# EAGLE library part EP2C35F672C8 (library altera-cycloneII)
Altera Cyclone II EP2C35F672CX
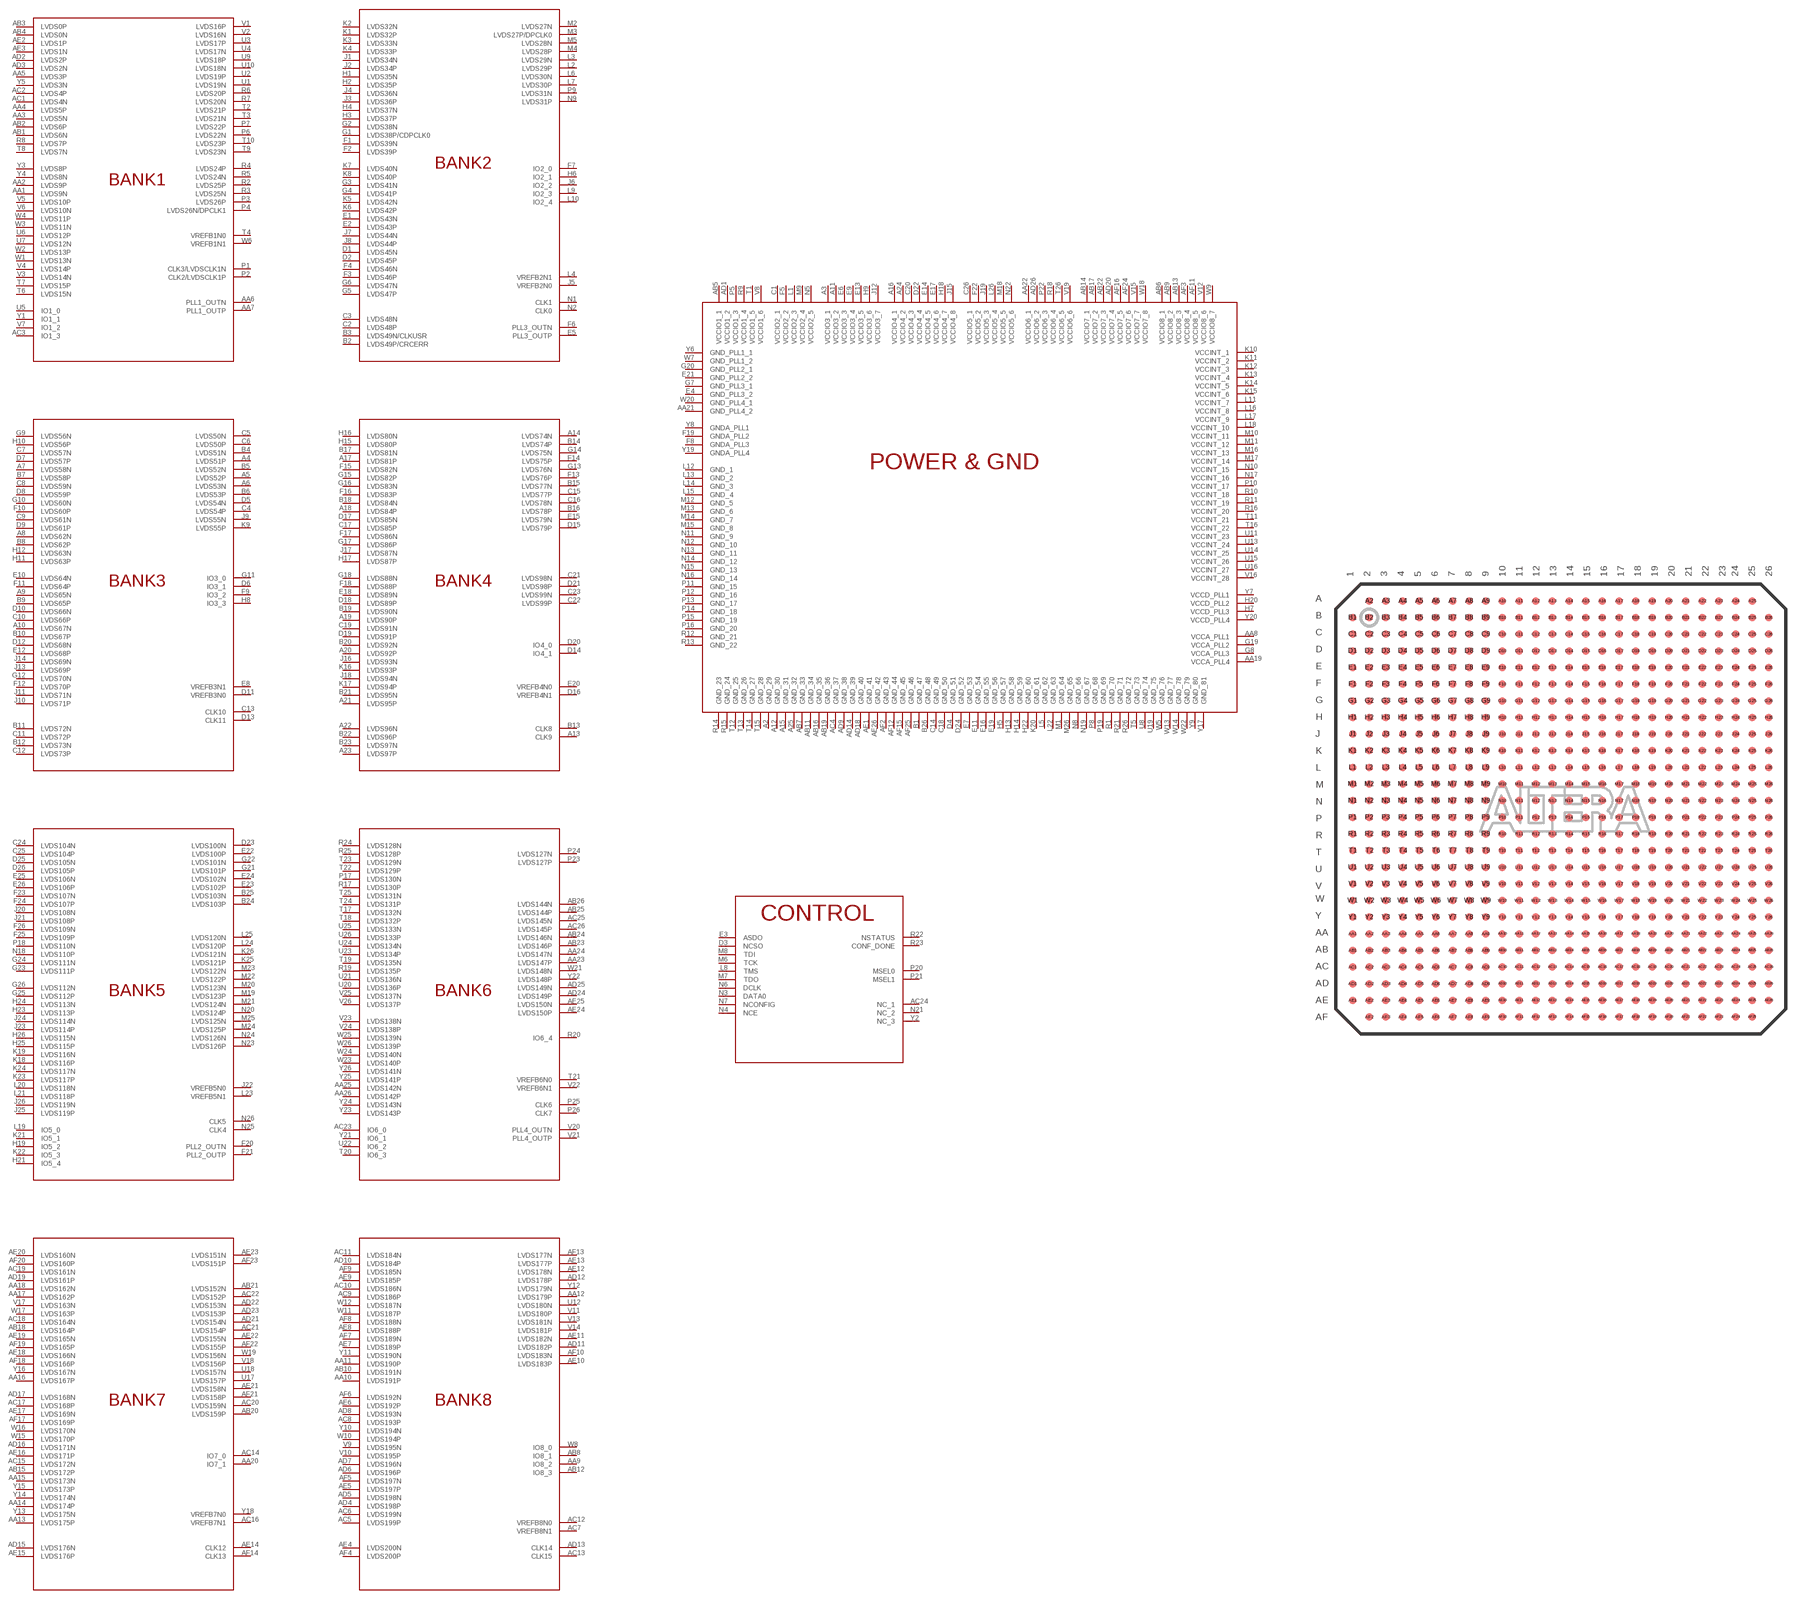
[diagram p0: symbol with the pads of FBGA672; footprint FBGA672]

Designator prefix -; gates BANK1=EP2C35_BANK_1 BANK3=EP2C35_BANK_3 BANK4=EP2C35_BANK_4 BANK5=EP2C35_BANK_5 BANK6=EP2C35_BANK_6 BANK7=EP2C35_BANK_7 BANK8=EP2C35_BANK_8 BANK2=EP2C35_BANK_2 CONTROL=EP2C35_CONTROL_SIGNAL POWER=EP2C35_POWER_GND

## EP2C35F672C8  [FBGA672]
A2  POWER:GND_29
A3  POWER:VCCIO3_1
A4  BANK3:LVDS51P
A5  BANK3:LVDS52P
A6  BANK3:LVDS53N
A7  BANK3:LVDS58N
A8  BANK3:LVDS62N
A9  BANK3:LVDS65N
A10  BANK3:LVDS67N
A11  POWER:VCCIO3_2
A12  POWER:GND_30
A13  BANK4:CLK9
A14  BANK4:LVDS74N
A15  POWER:GND_31
A16  POWER:VCCIO4_1
A17  BANK4:LVDS81P
A18  BANK4:LVDS84P
A19  BANK4:LVDS90P
A20  BANK4:LVDS92P
A21  BANK4:LVDS95P
A22  BANK4:LVDS96N
A23  BANK4:LVDS97P
A24  POWER:VCCIO4_2
A25  POWER:GND_32
AA1  BANK1:LVDS9N
AA2  BANK1:LVDS9P
AA3  BANK1:LVDS5N
AA4  BANK1:LVDS5P
AA5  BANK1:LVDS3P
AA6  BANK1:PLL1_OUTN
AA7  BANK1:PLL1_OUTP
AA8  POWER:VCCA_PLL1
AA9  BANK8:IO8_2
AA10  BANK8:LVDS191P
AA11  BANK8:LVDS190P
AA12  BANK8:LVDS179P
AA13  BANK7:LVDS175P
AA14  BANK7:LVDS174P
AA15  BANK7:LVDS173N
AA16  BANK7:LVDS167P
AA17  BANK7:LVDS162P
AA18  BANK7:LVDS162N
AA19  POWER:VCCA_PLL4
AA20  BANK7:IO7_1
AA21  POWER:GND_PLL4_2
AA22  POWER:VCCIO6_1
AA23  BANK6:LVDS147P
AA24  BANK6:LVDS147N
AA25  BANK6:LVDS142N
AA26  BANK6:LVDS142P
AB1  BANK1:LVDS6N
AB2  BANK1:LVDS6P
AB3  BANK1:LVDS0P
AB4  BANK1:LVDS0N
AB5  POWER:VCCIO1_1
AB6  POWER:VCCIO8_1
AB7  POWER:GND_33
AB8  BANK8:IO8_1
AB9  POWER:VCCIO8_2
AB10  BANK8:LVDS191N
AB11  POWER:GND_34
AB12  BANK8:IO8_3
AB13  POWER:VCCIO8_3
AB14  POWER:VCCIO7_1
AB15  BANK7:LVDS172P
AB16  POWER:GND_35
AB17  POWER:VCCIO7_2
AB18  BANK7:LVDS164P
AB19  POWER:GND_36
AB20  BANK7:LVDS159P
AB21  BANK7:LVDS152N
AB22  POWER:VCCIO7_3
AB23  BANK6:LVDS146P
AB24  BANK6:LVDS146N
AB25  BANK6:LVDS144P
AB26  BANK6:LVDS144N
AC1  BANK1:LVDS4N
AC2  BANK1:LVDS4P
AC3  BANK1:IO1_3
AC4  POWER:GND_37
AC5  BANK8:LVDS199P
AC6  BANK8:LVDS199N
AC7  BANK8:VREFB8N1
AC8  BANK8:LVDS193P
AC9  BANK8:LVDS186P
AC10  BANK8:LVDS186N
AC11  BANK8:LVDS184N
AC12  BANK8:VREFB8N0
AC13  BANK8:CLK15
AC14  BANK7:IO7_0
AC15  BANK7:LVDS172N
AC16  BANK7:VREFB7N1
AC17  BANK7:LVDS168P
AC18  BANK7:LVDS164N
AC19  BANK7:LVDS161N
AC20  BANK7:LVDS159N
AC21  BANK7:LVDS154P
AC22  BANK7:LVDS152P
AC23  BANK6:IO6_0
AC24  CONTROL:NC_1
AC25  BANK6:LVDS145N
AC26  BANK6:LVDS145P
AD1  POWER:VCCIO1_2
AD2  BANK1:LVDS2P
AD3  BANK1:LVDS2N
AD4  BANK8:LVDS198P
AD5  BANK8:LVDS198N
AD6  BANK8:LVDS196P
AD7  BANK8:LVDS196N
AD8  BANK8:LVDS193N
AD9  POWER:GND_38
AD10  BANK8:LVDS184P
AD11  BANK8:LVDS182P
AD12  BANK8:LVDS178P
AD13  BANK8:CLK14
AD14  POWER:GND_39
AD15  BANK7:LVDS176N
AD16  BANK7:LVDS171N
AD17  BANK7:LVDS168N
AD18  POWER:GND_40
AD19  BANK7:LVDS161P
AD20  POWER:VCCIO7_4
AD21  BANK7:LVDS154N
AD22  BANK7:LVDS153N
AD23  BANK7:LVDS153P
AD24  BANK6:LVDS149P
AD25  BANK6:LVDS149N
AD26  POWER:VCCIO6_2
AE1  POWER:GND_41
AE2  BANK1:LVDS1P
AE3  BANK1:LVDS1N
AE4  BANK8:LVDS200N
AE5  BANK8:LVDS197P
AE6  BANK8:LVDS192P
AE7  BANK8:LVDS189P
AE8  BANK8:LVDS188P
AE9  BANK8:LVDS185P
AE10  BANK8:LVDS183P
AE11  BANK8:LVDS182N
AE12  BANK8:LVDS178N
AE13  BANK8:LVDS177P
AE14  BANK7:CLK12
AE15  BANK7:LVDS176P
AE16  BANK7:LVDS171P
AE17  BANK7:LVDS169N
AE18  BANK7:LVDS166N
AE19  BANK7:LVDS165N
AE20  BANK7:LVDS160N
AE21  BANK7:LVDS158N
AE22  BANK7:LVDS155N
AE23  BANK7:LVDS151N
AE24  BANK6:LVDS150P
AE25  BANK6:LVDS150N
AE26  POWER:GND_42
AF2  POWER:GND_43
AF3  POWER:VCCIO8_4
AF4  BANK8:LVDS200P
AF5  BANK8:LVDS197N
AF6  BANK8:LVDS192N
AF7  BANK8:LVDS189N
AF8  BANK8:LVDS188N
AF9  BANK8:LVDS185N
AF10  BANK8:LVDS183N
AF11  POWER:VCCIO8_5
AF12  POWER:GND_44
AF13  BANK8:LVDS177N
AF14  BANK7:CLK13
AF15  POWER:GND_45
AF16  POWER:VCCIO7_5
AF17  BANK7:LVDS169P
AF18  BANK7:LVDS166P
AF19  BANK7:LVDS165P
AF20  BANK7:LVDS160P
AF21  BANK7:LVDS158P
AF22  BANK7:LVDS155P
AF23  BANK7:LVDS151P
AF24  POWER:VCCIO7_6
AF25  POWER:GND_46
B1  POWER:GND_47
B2  BANK2:LVDS49P/CRCERR
B3  BANK2:LVDS49N/CLKUSR
B4  BANK3:LVDS51N
B5  BANK3:LVDS52N
B6  BANK3:LVDS53P
B7  BANK3:LVDS58P
B8  BANK3:LVDS62P
B9  BANK3:LVDS65P
B10  BANK3:LVDS67P
B11  BANK3:LVDS72N
B12  BANK3:LVDS73N
B13  BANK4:CLK8
B14  BANK4:LVDS74P
B15  BANK4:LVDS77N
B16  BANK4:LVDS78P
B17  BANK4:LVDS81N
B18  BANK4:LVDS84N
B19  BANK4:LVDS90N
B20  BANK4:LVDS92N
B21  BANK4:LVDS95N
B22  BANK4:LVDS96P
B23  BANK4:LVDS97N
B24  BANK5:LVDS103P
B25  BANK5:LVDS103N
B26  POWER:GND_48
C1  POWER:VCCIO2_1
C2  BANK2:LVDS48P
C3  BANK2:LVDS48N
C4  BANK3:LVDS54P
C5  BANK3:LVDS50N
C6  BANK3:LVDS50P
C7  BANK3:LVDS57N
C8  BANK3:LVDS59N
C9  BANK3:LVDS61N
C10  BANK3:LVDS66P
C11  BANK3:LVDS72P
C12  BANK3:LVDS73P
C13  BANK3:CLK10
C14  POWER:GND_49
C15  BANK4:LVDS77P
C16  BANK4:LVDS78N
C17  BANK4:LVDS85P
C18  POWER:GND_50
C19  BANK4:LVDS91N
C20  POWER:VCCIO4_3
C21  BANK4:LVDS98N
C22  BANK4:LVDS99P
C23  BANK4:LVDS99N
C24  BANK5:LVDS104N
C25  BANK5:LVDS104P
C26  POWER:VCCIO5_1
D1  BANK2:LVDS45N
D2  BANK2:LVDS45P
D3  CONTROL:NCSO
D4  POWER:GND_51
D5  BANK3:LVDS54N
D6  BANK3:IO3_1
D7  BANK3:LVDS57P
D8  BANK3:LVDS59P
D9  BANK3:LVDS61P
D10  BANK3:LVDS66N
D11  BANK3:VREFB3N0
D12  BANK3:LVDS68N
D13  BANK3:CLK11
D14  BANK4:IO4_1
D15  BANK4:LVDS79P
D16  BANK4:VREFB4N1
D17  BANK4:LVDS85N
D18  BANK4:LVDS89P
D19  BANK4:LVDS91P
D20  BANK4:IO4_0
D21  BANK4:LVDS98P
D22  POWER:VCCIO4_4
D23  BANK5:LVDS100N
D24  POWER:GND_52
D25  BANK5:LVDS105N
D26  BANK5:LVDS105P
E1  BANK2:LVDS43N
E2  BANK2:LVDS43P
E3  CONTROL:ASDO
E4  POWER:GND_PLL3_2
E5  BANK2:PLL3_OUTP
E6  POWER:VCCIO3_3
E7  POWER:GND_53
E8  BANK3:VREFB3N1
E9  POWER:VCCIO3_4
E10  BANK3:LVDS64N
E11  POWER:GND_54
E12  BANK3:LVDS68P
E13  POWER:VCCIO3_5
E14  POWER:VCCIO4_5
E15  BANK4:LVDS79N
E16  POWER:GND_55
E17  POWER:VCCIO4_6
E18  BANK4:LVDS89N
E19  POWER:GND_56
E20  BANK4:VREFB4N0
E21  POWER:GND_PLL2_2
E22  BANK5:LVDS100P
E23  BANK5:LVDS102P
E24  BANK5:LVDS102N
E25  BANK5:LVDS106N
E26  BANK5:LVDS106P
F1  BANK2:LVDS39N
F2  BANK2:LVDS39P
F3  BANK2:LVDS46P
F4  BANK2:LVDS46N
F5  POWER:VCCIO2_2
F6  BANK2:PLL3_OUTN
F7  BANK2:IO2_0
F8  POWER:GNDA_PLL3
F9  BANK3:IO3_2
F10  BANK3:LVDS60P
F11  BANK3:LVDS64P
F12  BANK3:LVDS70P
F13  BANK4:LVDS76P
F14  BANK4:LVDS75P
F15  BANK4:LVDS82N
F16  BANK4:LVDS83P
F17  BANK4:LVDS86N
F18  BANK4:LVDS88P
F19  POWER:GNDA_PLL2
F20  BANK5:PLL2_OUTN
F21  BANK5:PLL2_OUTP
F22  POWER:VCCIO5_2
F23  BANK5:LVDS107N
F24  BANK5:LVDS107P
F25  BANK5:LVDS109P
F26  BANK5:LVDS109N
G1  BANK2:LVDS38P/CDPCLK0
G2  BANK2:LVDS38N
G3  BANK2:LVDS41N
G4  BANK2:LVDS41P
G5  BANK2:LVDS47P
G6  BANK2:LVDS47N
G7  POWER:GND_PLL3_1
G8  POWER:VCCA_PLL3
G9  BANK3:LVDS56N
G10  BANK3:LVDS60N
G11  BANK3:IO3_0
G12  BANK3:LVDS70N
G13  BANK4:LVDS76N
G14  BANK4:LVDS75N
G15  BANK4:LVDS82P
G16  BANK4:LVDS83N
G17  BANK4:LVDS86P
G18  BANK4:LVDS88N
G19  POWER:VCCA_PLL2
G20  POWER:GND_PLL2_1
G21  BANK5:LVDS101P
G22  BANK5:LVDS101N
G23  BANK5:LVDS111P
G24  BANK5:LVDS111N
G25  BANK5:LVDS112P
G26  BANK5:LVDS112N
H1  BANK2:LVDS35N
H2  BANK2:LVDS35P
H3  BANK2:LVDS37P
H4  BANK2:LVDS37N
H5  POWER:GND_57
H6  BANK2:IO2_1
H7  POWER:VCCD_PLL3
H8  BANK3:IO3_3
H9  POWER:VCCIO3_6
H10  BANK3:LVDS56P
H11  BANK3:LVDS63P
H12  BANK3:LVDS63N
H13  POWER:GND_58
H14  POWER:GND_59
H15  BANK4:LVDS80P
H16  BANK4:LVDS80N
H17  BANK4:LVDS87P
H18  POWER:VCCIO4_7
H19  BANK5:IO5_2
H20  POWER:VCCD_PLL2
H21  BANK5:IO5_4
H22  POWER:GND_60
H23  BANK5:LVDS113P
H24  BANK5:LVDS113N
H25  BANK5:LVDS115P
H26  BANK5:LVDS115N
J1  BANK2:LVDS34N
J2  BANK2:LVDS34P
J3  BANK2:LVDS36P
J4  BANK2:LVDS36N
J5  BANK2:VREFB2N0
J6  BANK2:IO2_2
J7  BANK2:LVDS44N
J8  BANK2:LVDS44P
J9  BANK3:LVDS55N
J10  BANK3:LVDS71P
J11  BANK3:LVDS71N
J12  POWER:VCCIO3_7
J13  BANK3:LVDS69P
J14  BANK3:LVDS69N
J15  POWER:VCCIO4_8
J16  BANK4:LVDS93N
J17  BANK4:LVDS87N
J18  BANK4:LVDS94N
J19  POWER:VCCIO5_3
J20  BANK5:LVDS108N
J21  BANK5:LVDS108P
J22  BANK5:VREFB5N0
J23  BANK5:LVDS114P
J24  BANK5:LVDS114N
J25  BANK5:LVDS119P
J26  BANK5:LVDS119N
K1  BANK2:LVDS32P
K2  BANK2:LVDS32N
K3  BANK2:LVDS33N
K4  BANK2:LVDS33P
K5  BANK2:LVDS42N
K6  BANK2:LVDS42P
K7  BANK2:LVDS40N
K8  BANK2:LVDS40P
K9  BANK3:LVDS55P
K10  POWER:VCCINT_1
K11  POWER:VCCINT_2
K12  POWER:VCCINT_3
K13  POWER:VCCINT_4
K14  POWER:VCCINT_5
K15  POWER:VCCINT_6
K16  BANK4:LVDS93P
K17  BANK4:LVDS94P
K18  BANK5:LVDS116P
K19  BANK5:LVDS116N
K20  POWER:GND_61
K21  BANK5:IO5_1
K22  BANK5:IO5_3
K23  BANK5:LVDS117P
K24  BANK5:LVDS117N
K25  BANK5:LVDS121P
K26  BANK5:LVDS121N
L1  POWER:VCCIO2_3
L2  BANK2:LVDS29P
L3  BANK2:LVDS29N
L4  BANK2:VREFB2N1
L5  POWER:GND_62
L6  BANK2:LVDS30N
L7  BANK2:LVDS30P
L8  CONTROL:TMS
L9  BANK2:IO2_3
L10  BANK2:IO2_4
L11  POWER:VCCINT_7
L12  POWER:GND_1
L13  POWER:GND_2
L14  POWER:GND_3
L15  POWER:GND_4
L16  POWER:VCCINT_8
L17  POWER:VCCINT_9
L18  POWER:VCCINT_10
L19  BANK5:IO5_0
L20  BANK5:LVDS118N
L21  BANK5:LVDS118P
L22  POWER:GND_63
L23  BANK5:VREFB5N1
L24  BANK5:LVDS120P
L25  BANK5:LVDS120N
L26  POWER:VCCIO5_4
M1  POWER:GND_64
M2  BANK2:LVDS27N
M3  BANK2:LVDS27P/DPCLK0
M4  BANK2:LVDS28P
M5  BANK2:LVDS28N
M6  CONTROL:TCK
M7  CONTROL:TDO
M8  CONTROL:TDI
M9  POWER:VCCIO2_4
M10  POWER:VCCINT_11
M11  POWER:VCCINT_12
M12  POWER:GND_5
M13  POWER:GND_6
M14  POWER:GND_7
M15  POWER:GND_8
M16  POWER:VCCINT_13
M17  POWER:VCCINT_14
M18  POWER:VCCIO5_5
M19  BANK5:LVDS123P
M20  BANK5:LVDS123N
M21  BANK5:LVDS124N
M22  BANK5:LVDS122P
M23  BANK5:LVDS122N
M24  BANK5:LVDS125P
M25  BANK5:LVDS125N
M26  POWER:GND_65
N1  BANK2:CLK1
N2  BANK2:CLK0
N3  CONTROL:DATA0
N4  CONTROL:NCE
N5  POWER:VCCIO2_5
N6  CONTROL:DCLK
N7  CONTROL:NCONFIG
N8  POWER:GND_66
N9  BANK2:LVDS31P
N10  POWER:VCCINT_15
N11  POWER:GND_9
N12  POWER:GND_10
N13  POWER:GND_11
N14  POWER:GND_12
N15  POWER:GND_13
N16  POWER:GND_14
N17  POWER:VCCINT_16
N18  BANK5:LVDS110P
N19  POWER:GND_67
N20  BANK5:LVDS124P
N21  CONTROL:NC_2
N22  POWER:VCCIO5_6
N23  BANK5:LVDS126P
N24  BANK5:LVDS126N
N25  BANK5:CLK4
N26  BANK5:CLK5
P1  BANK1:CLK3/LVDSCLK1N
P2  BANK1:CLK2/LVDSCLK1P
P3  BANK1:LVDS26P
P4  BANK1:LVDS26N/DPCLK1
P5  POWER:VCCIO1_3
P6  BANK1:LVDS22N
P7  BANK1:LVDS22P
P8  POWER:GND_68
P9  BANK2:LVDS31N
P10  POWER:VCCINT_17
P11  POWER:GND_15
P12  POWER:GND_16
P13  POWER:GND_17
P14  POWER:GND_18
P15  POWER:GND_19
P16  POWER:GND_20
P17  BANK6:LVDS130N
P18  BANK5:LVDS110N
P19  POWER:GND_69
P20  CONTROL:MSEL0
P21  CONTROL:MSEL1
P22  POWER:VCCIO6_3
P23  BANK6:LVDS127P
P24  BANK6:LVDS127N
P25  BANK6:CLK6
P26  BANK6:CLK7
R1  POWER:GND_70
R2  BANK1:LVDS25P
R3  BANK1:LVDS25N
R4  BANK1:LVDS24P
R5  BANK1:LVDS24N
R6  BANK1:LVDS20P
R7  BANK1:LVDS20N
R8  BANK1:LVDS7P
R9  POWER:VCCIO1_4
R10  POWER:VCCINT_18
R11  POWER:VCCINT_19
R12  POWER:GND_21
R13  POWER:GND_22
R14  POWER:GND_23
R15  POWER:GND_24
R16  POWER:VCCINT_20
R17  BANK6:LVDS130P
R18  POWER:VCCIO6_4
R19  BANK6:LVDS135P
R20  BANK6:IO6_4
R21  POWER:GND_71
R22  CONTROL:NSTATUS
R23  CONTROL:CONF_DONE
R24  BANK6:LVDS128N
R25  BANK6:LVDS128P
R26  POWER:GND_72
T1  POWER:VCCIO1_5
T2  BANK1:LVDS21P
T3  BANK1:LVDS21N
T4  BANK1:VREFB1N0
T5  POWER:GND_73
T6  BANK1:LVDS15N
T7  BANK1:LVDS15P
T8  BANK1:LVDS7N
T9  BANK1:LVDS23N
T10  BANK1:LVDS23P
T11  POWER:VCCINT_21
T12  POWER:GND_25
T13  POWER:GND_26
T14  POWER:GND_27
T15  POWER:GND_28
T16  POWER:VCCINT_22
T17  BANK6:LVDS132N
T18  BANK6:LVDS132P
T19  BANK6:LVDS135N
T20  BANK6:IO6_3
T21  BANK6:VREFB6N0
T22  BANK6:LVDS129P
T23  BANK6:LVDS129N
T24  BANK6:LVDS131P
T25  BANK6:LVDS131N
T26  POWER:VCCIO6_5
U1  BANK1:LVDS19N
U2  BANK1:LVDS19P
U3  BANK1:LVDS17P
U4  BANK1:LVDS17N
U5  BANK1:IO1_0
U6  BANK1:LVDS12P
U7  BANK1:LVDS12N
U8  POWER:GND_74
U9  BANK1:LVDS18P
U10  BANK1:LVDS18N
U11  POWER:VCCINT_23
U12  BANK8:LVDS180N
U13  POWER:VCCINT_24
U14  POWER:VCCINT_25
U15  POWER:VCCINT_26
U16  POWER:VCCINT_27
U17  BANK7:LVDS157P
U18  BANK7:LVDS157N
U19  POWER:GND_75
U20  BANK6:LVDS136P
U21  BANK6:LVDS136N
U22  BANK6:IO6_2
U23  BANK6:LVDS134P
U24  BANK6:LVDS134N
U25  BANK6:LVDS133N
U26  BANK6:LVDS133P
V1  BANK1:LVDS16P
V2  BANK1:LVDS16N
V3  BANK1:LVDS14N
V4  BANK1:LVDS14P
V5  BANK1:LVDS10P
V6  BANK1:LVDS10N
V7  BANK1:IO1_2
V8  POWER:VCCIO1_6
V9  BANK8:LVDS195N
V10  BANK8:LVDS195P
V11  BANK8:LVDS180P
V12  POWER:VCCIO8_6
V13  BANK8:LVDS181N
V14  BANK8:LVDS181P
V15  POWER:VCCIO7_7
V16  POWER:VCCINT_28
V17  BANK7:LVDS163N
V18  BANK7:LVDS156P
V19  POWER:VCCIO6_6
V20  BANK6:PLL4_OUTN
V21  BANK6:PLL4_OUTP
V22  BANK6:VREFB6N1
V23  BANK6:LVDS138N
V24  BANK6:LVDS138P
V25  BANK6:LVDS137N
V26  BANK6:LVDS137P
W1  BANK1:LVDS13N
W2  BANK1:LVDS13P
W3  BANK1:LVDS11N
W4  BANK1:LVDS11P
W5  POWER:GND_76
W6  BANK1:VREFB1N1
W7  POWER:GND_PLL1_2
W8  BANK8:IO8_0
W9  POWER:VCCIO8_7
W10  BANK8:LVDS194P
W11  BANK8:LVDS187P
W12  BANK8:LVDS187N
W13  POWER:GND_77
W14  POWER:GND_78
W15  BANK7:LVDS170P
W16  BANK7:LVDS170N
W17  BANK7:LVDS163P
W18  POWER:VCCIO7_8
W19  BANK7:LVDS156N
W20  POWER:GND_PLL4_1
W21  BANK6:LVDS148N
W22  POWER:GND_79
W23  BANK6:LVDS140P
W24  BANK6:LVDS140N
W25  BANK6:LVDS139N
W26  BANK6:LVDS139P
Y1  BANK1:IO1_1
Y2  CONTROL:NC_3
Y3  BANK1:LVDS8P
Y4  BANK1:LVDS8N
Y5  BANK1:LVDS3N
Y6  POWER:GND_PLL1_1
Y7  POWER:VCCD_PLL1
Y8  POWER:GNDA_PLL1
Y9  POWER:GND_80
Y10  BANK8:LVDS194N
Y11  BANK8:LVDS190N
Y12  BANK8:LVDS179N
Y13  BANK7:LVDS175N
Y14  BANK7:LVDS174N
Y15  BANK7:LVDS173P
Y16  BANK7:LVDS167N
Y17  POWER:GND_81
Y18  BANK7:VREFB7N0
Y19  POWER:GNDA_PLL4
Y20  POWER:VCCD_PLL4
Y21  BANK6:IO6_1
Y22  BANK6:LVDS148P
Y23  BANK6:LVDS143P
Y24  BANK6:LVDS143N
Y25  BANK6:LVDS141P
Y26  BANK6:LVDS141N

## Footprint FBGA672 (pad centres in mm)
Fine Ball Grid Array
smd 0.45 x 0.45: A2 -11.5,12.5; A3 -10.5,12.5; A4 -9.5,12.5; A5 -8.5,12.5; A6 -7.5,12.5; A7 -6.5,12.5; A8 -5.5,12.5; A9 -4.5,12.5; A10 -3.5,12.5; A11 -2.5,12.5; A12 -1.5,12.5; A13 -0.5,12.5; A14 0.5,12.5; A15 1.5,12.5; A16 2.5,12.5; A17 3.5,12.5; A18 4.5,12.5; A19 5.5,12.5; A20 6.5,12.5; A21 7.5,12.5; A22 8.5,12.5; A23 9.5,12.5; A24 10.5,12.5; A25 11.5,12.5; AA1 -12.5,-7.5; AA2 -11.5,-7.5; AA3 -10.5,-7.5; AA4 -9.5,-7.5; AA5 -8.5,-7.5; AA6 -7.5,-7.5; AA7 -6.5,-7.5; AA8 -5.5,-7.5; AA9 -4.5,-7.5; AA10 -3.5,-7.5; AA11 -2.5,-7.5; AA12 -1.5,-7.5; AA13 -0.5,-7.5; AA14 0.5,-7.5; AA15 1.5,-7.5; AA16 2.5,-7.5; AA17 3.5,-7.5; AA18 4.5,-7.5; AA19 5.5,-7.5; AA20 6.5,-7.5; AA21 7.5,-7.5; AA22 8.5,-7.5; AA23 9.5,-7.5; AA24 10.5,-7.5; AA25 11.5,-7.5; AA26 12.5,-7.5; AB1 -12.5,-8.5; AB2 -11.5,-8.5; AB3 -10.5,-8.5; AB4 -9.5,-8.5; AB5 -8.5,-8.5; AB6 -7.5,-8.5; AB7 -6.5,-8.5; AB8 -5.5,-8.5; AB9 -4.5,-8.5; AB10 -3.5,-8.5; AB11 -2.5,-8.5; AB12 -1.5,-8.5; AB13 -0.5,-8.5; AB14 0.5,-8.5; AB15 1.5,-8.5; AB16 2.5,-8.5; AB17 3.5,-8.5; AB18 4.5,-8.5; AB19 5.5,-8.5; AB20 6.5,-8.5; AB21 7.5,-8.5; AB22 8.5,-8.5; AB23 9.5,-8.5; AB24 10.5,-8.5; AB25 11.5,-8.5; AB26 12.5,-8.5; AC1 -12.5,-9.5; AC2 -11.5,-9.5; AC3 -10.5,-9.5; AC4 -9.5,-9.5; AC5 -8.5,-9.5; AC6 -7.5,-9.5; AC7 -6.5,-9.5; AC8 -5.5,-9.5; AC9 -4.5,-9.5; AC10 -3.5,-9.5; AC11 -2.5,-9.5; AC12 -1.5,-9.5; AC13 -0.5,-9.5; AC14 0.5,-9.5; AC15 1.5,-9.5; AC16 2.5,-9.5; AC17 3.5,-9.5; AC18 4.5,-9.5; AC19 5.5,-9.5; AC20 6.5,-9.5; AC21 7.5,-9.5; AC22 8.5,-9.5; AC23 9.5,-9.5; AC24 10.5,-9.5; AC25 11.5,-9.5; AC26 12.5,-9.5; AD1 -12.5,-10.5; AD2 -11.5,-10.5; AD3 -10.5,-10.5; AD4 -9.5,-10.5; AD5 -8.5,-10.5; AD6 -7.5,-10.5; AD7 -6.5,-10.5; AD8 -5.5,-10.5; AD9 -4.5,-10.5; AD10 -3.5,-10.5; AD11 -2.5,-10.5; AD12 -1.5,-10.5; AD13 -0.5,-10.5; AD14 0.5,-10.5; AD15 1.5,-10.5; AD16 2.5,-10.5; AD17 3.5,-10.5; AD18 4.5,-10.5; AD19 5.5,-10.5; AD20 6.5,-10.5; AD21 7.5,-10.5; AD22 8.5,-10.5; AD23 9.5,-10.5; AD24 10.5,-10.5; AD25 11.5,-10.5; AD26 12.5,-10.5; AE1 -12.5,-11.5; AE2 -11.5,-11.5; AE3 -10.5,-11.5; AE4 -9.5,-11.5; AE5 -8.5,-11.5; AE6 -7.5,-11.5; AE7 -6.5,-11.5; AE8 -5.5,-11.5; AE9 -4.5,-11.5; AE10 -3.5,-11.5; AE11 -2.5,-11.5; AE12 -1.5,-11.5; AE13 -0.5,-11.5; AE14 0.5,-11.5; AE15 1.5,-11.5; AE16 2.5,-11.5; AE17 3.5,-11.5; AE18 4.5,-11.5; AE19 5.5,-11.5; AE20 6.5,-11.5; AE21 7.5,-11.5; AE22 8.5,-11.5; AE23 9.5,-11.5; AE24 10.5,-11.5; AE25 11.5,-11.5; AE26 12.5,-11.5; AF2 -11.5,-12.5; AF3 -10.5,-12.5; AF4 -9.5,-12.5; AF5 -8.5,-12.5; AF6 -7.5,-12.5; AF7 -6.5,-12.5; AF8 -5.5,-12.5; AF9 -4.5,-12.5; AF10 -3.5,-12.5; AF11 -2.5,-12.5; AF12 -1.5,-12.5; AF13 -0.5,-12.5; AF14 0.5,-12.5; AF15 1.5,-12.5; AF16 2.5,-12.5; AF17 3.5,-12.5; AF18 4.5,-12.5; AF19 5.5,-12.5; AF20 6.5,-12.5; AF21 7.5,-12.5; AF22 8.5,-12.5; AF23 9.5,-12.5; AF24 10.5,-12.5; AF25 11.5,-12.5; B1 -12.5,11.5; B2 -11.5,11.5; B3 -10.5,11.5; B4 -9.5,11.5; B5 -8.5,11.5; B6 -7.5,11.5; B7 -6.5,11.5; B8 -5.5,11.5; B9 -4.5,11.5; B10 -3.5,11.5; B11 -2.5,11.5; B12 -1.5,11.5; B13 -0.5,11.5; B14 0.5,11.5; B15 1.5,11.5; B16 2.5,11.5; B17 3.5,11.5; B18 4.5,11.5; B19 5.5,11.5; B20 6.5,11.5; B21 7.5,11.5; B22 8.5,11.5; B23 9.5,11.5; B24 10.5,11.5; B25 11.5,11.5; B26 12.5,11.5; C1 -12.5,10.5; C2 -11.5,10.5; C3 -10.5,10.5; C4 -9.5,10.5; C5 -8.5,10.5; C6 -7.5,10.5; C7 -6.5,10.5; C8 -5.5,10.5; C9 -4.5,10.5; C10 -3.5,10.5; C11 -2.5,10.5; C12 -1.5,10.5; C13 -0.5,10.5; C14 0.5,10.5; C15 1.5,10.5; C16 2.5,10.5; C17 3.5,10.5; C18 4.5,10.5; C19 5.5,10.5; C20 6.5,10.5; C21 7.5,10.5; C22 8.5,10.5; C23 9.5,10.5; C24 10.5,10.5; C25 11.5,10.5; C26 12.5,10.5; D1 -12.5,9.5; D2 -11.5,9.5; D3 -10.5,9.5; D4 -9.5,9.5; D5 -8.5,9.5; D6 -7.5,9.5; D7 -6.5,9.5; D8 -5.5,9.5; D9 -4.5,9.5; D10 -3.5,9.5; D11 -2.5,9.5; D12 -1.5,9.5; D13 -0.5,9.5; D14 0.5,9.5; D15 1.5,9.5; D16 2.5,9.5; D17 3.5,9.5; D18 4.5,9.5; D19 5.5,9.5; D20 6.5,9.5; D21 7.5,9.5; D22 8.5,9.5; D23 9.5,9.5; D24 10.5,9.5; D25 11.5,9.5; D26 12.5,9.5; E1 -12.5,8.5; E2 -11.5,8.5; E3 -10.5,8.5; E4 -9.5,8.5; E5 -8.5,8.5; E6 -7.5,8.5; E7 -6.5,8.5; E8 -5.5,8.5; E9 -4.5,8.5; E10 -3.5,8.5; E11 -2.5,8.5; E12 -1.5,8.5; E13 -0.5,8.5; E14 0.5,8.5; E15 1.5,8.5; E16 2.5,8.5; E17 3.5,8.5; E18 4.5,8.5; E19 5.5,8.5; E20 6.5,8.5; E21 7.5,8.5; E22 8.5,8.5; E23 9.5,8.5; E24 10.5,8.5; E25 11.5,8.5; E26 12.5,8.5; F1 -12.5,7.5; F2 -11.5,7.5; F3 -10.5,7.5; F4 -9.5,7.5; F5 -8.5,7.5; F6 -7.5,7.5; F7 -6.5,7.5; F8 -5.5,7.5; F9 -4.5,7.5; F10 -3.5,7.5; F11 -2.5,7.5; F12 -1.5,7.5; F13 -0.5,7.5; F14 0.5,7.5; F15 1.5,7.5; F16 2.5,7.5; F17 3.5,7.5; F18 4.5,7.5; F19 5.5,7.5; F20 6.5,7.5; F21 7.5,7.5; F22 8.5,7.5; F23 9.5,7.5; F24 10.5,7.5; F25 11.5,7.5; F26 12.5,7.5; G1 -12.5,6.5; G2 -11.5,6.5; G3 -10.5,6.5; G4 -9.5,6.5; G5 -8.5,6.5; G6 -7.5,6.5; G7 -6.5,6.5; G8 -5.5,6.5; G9 -4.5,6.5; G10 -3.5,6.5; G11 -2.5,6.5; G12 -1.5,6.5; G13 -0.5,6.5; G14 0.5,6.5; G15 1.5,6.5; G16 2.5,6.5; G17 3.5,6.5; G18 4.5,6.5; G19 5.5,6.5; G20 6.5,6.5; G21 7.5,6.5; G22 8.5,6.5; G23 9.5,6.5; G24 10.5,6.5; G25 11.5,6.5; G26 12.5,6.5; H1 -12.5,5.5; H2 -11.5,5.5; H3 -10.5,5.5; H4 -9.5,5.5; H5 -8.5,5.5; H6 -7.5,5.5; H7 -6.5,5.5; H8 -5.5,5.5; H9 -4.5,5.5; H10 -3.5,5.5; H11 -2.5,5.5; H12 -1.5,5.5; H13 -0.5,5.5; H14 0.5,5.5; H15 1.5,5.5; H16 2.5,5.5; H17 3.5,5.5; H18 4.5,5.5; H19 5.5,5.5; H20 6.5,5.5; H21 7.5,5.5; H22 8.5,5.5; H23 9.5,5.5; H24 10.5,5.5; H25 11.5,5.5; H26 12.5,5.5; J1 -12.5,4.5; J2 -11.5,4.5; J3 -10.5,4.5; J4 -9.5,4.5; J5 -8.5,4.5; J6 -7.5,4.5; J7 -6.5,4.5; J8 -5.5,4.5; J9 -4.5,4.5; J10 -3.5,4.5; J11 -2.5,4.5; J12 -1.5,4.5; J13 -0.5,4.5; J14 0.5,4.5; J15 1.5,4.5; J16 2.5,4.5; J17 3.5,4.5; J18 4.5,4.5; J19 5.5,4.5; J20 6.5,4.5; J21 7.5,4.5; J22 8.5,4.5; J23 9.5,4.5; J24 10.5,4.5; J25 11.5,4.5; J26 12.5,4.5; K1 -12.5,3.5; K2 -11.5,3.5; K3 -10.5,3.5; K4 -9.5,3.5; K5 -8.5,3.5; K6 -7.5,3.5; K7 -6.5,3.5; K8 -5.5,3.5; K9 -4.5,3.5; K10 -3.5,3.5; K11 -2.5,3.5; K12 -1.5,3.5; K13 -0.5,3.5; K14 0.5,3.5; K15 1.5,3.5; K16 2.5,3.5; K17 3.5,3.5; K18 4.5,3.5; K19 5.5,3.5; K20 6.5,3.5; K21 7.5,3.5; K22 8.5,3.5; K23 9.5,3.5; K24 10.5,3.5; K25 11.5,3.5; K26 12.5,3.5; L1 -12.5,2.5; L2 -11.5,2.5; L3 -10.5,2.5; L4 -9.5,2.5; L5 -8.5,2.5; L6 -7.5,2.5; L7 -6.5,2.5; L8 -5.5,2.5; L9 -4.5,2.5; L10 -3.5,2.5; L11 -2.5,2.5; L12 -1.5,2.5; L13 -0.5,2.5; L14 0.5,2.5; L15 1.5,2.5; L16 2.5,2.5; L17 3.5,2.5; L18 4.5,2.5; L19 5.5,2.5; L20 6.5,2.5; L21 7.5,2.5; L22 8.5,2.5; L23 9.5,2.5; L24 10.5,2.5; L25 11.5,2.5; L26 12.5,2.5; M1 -12.5,1.5; M2 -11.5,1.5; M3 -10.5,1.5; M4 -9.5,1.5; M5 -8.5,1.5; M6 -7.5,1.5; M7 -6.5,1.5; M8 -5.5,1.5; M9 -4.5,1.5; M10 -3.5,1.5; M11 -2.5,1.5; M12 -1.5,1.5; M13 -0.5,1.5; M14 0.5,1.5; M15 1.5,1.5; M16 2.5,1.5; M17 3.5,1.5; M18 4.5,1.5; M19 5.5,1.5; M20 6.5,1.5; M21 7.5,1.5; M22 8.5,1.5; M23 9.5,1.5; M24 10.5,1.5; M25 11.5,1.5; M26 12.5,1.5; N1 -12.5,0.5; N2 -11.5,0.5; N3 -10.5,0.5; N4 -9.5,0.5; N5 -8.5,0.5; N6 -7.5,0.5; N7 -6.5,0.5; N8 -5.5,0.5; N9 -4.5,0.5; N10 -3.5,0.5; N11 -2.5,0.5; N12 -1.5,0.5; N13 -0.5,0.5; N14 0.5,0.5; N15 1.5,0.5; N16 2.5,0.5; N17 3.5,0.5; N18 4.5,0.5; N19 5.5,0.5; N20 6.5,0.5; N21 7.5,0.5; N22 8.5,0.5; N23 9.5,0.5; N24 10.5,0.5; N25 11.5,0.5; N26 12.5,0.5; P1 -12.5,-0.5; P2 -11.5,-0.5; P3 -10.5,-0.5; P4 -9.5,-0.5; P5 -8.5,-0.5; P6 -7.5,-0.5; P7 -6.5,-0.5; P8 -5.5,-0.5; P9 -4.5,-0.5; P10 -3.5,-0.5; P11 -2.5,-0.5; P12 -1.5,-0.5; P13 -0.5,-0.5; P14 0.5,-0.5; P15 1.5,-0.5; P16 2.5,-0.5; P17 3.5,-0.5; P18 4.5,-0.5; P19 5.5,-0.5; P20 6.5,-0.5; P21 7.5,-0.5; P22 8.5,-0.5; P23 9.5,-0.5; P24 10.5,-0.5; P25 11.5,-0.5; P26 12.5,-0.5; R1 -12.5,-1.5; R2 -11.5,-1.5; R3 -10.5,-1.5; R4 -9.5,-1.5; R5 -8.5,-1.5; R6 -7.5,-1.5; R7 -6.5,-1.5; R8 -5.5,-1.5; R9 -4.5,-1.5; R10 -3.5,-1.5; R11 -2.5,-1.5; R12 -1.5,-1.5; R13 -0.5,-1.5; R14 0.5,-1.5; R15 1.5,-1.5; R16 2.5,-1.5; R17 3.5,-1.5; R18 4.5,-1.5; R19 5.5,-1.5; R20 6.5,-1.5; R21 7.5,-1.5; R22 8.5,-1.5; R23 9.5,-1.5; R24 10.5,-1.5; R25 11.5,-1.5; R26 12.5,-1.5; T1 -12.5,-2.5; T2 -11.5,-2.5; T3 -10.5,-2.5; T4 -9.5,-2.5; T5 -8.5,-2.5; T6 -7.5,-2.5; T7 -6.5,-2.5; T8 -5.5,-2.5; T9 -4.5,-2.5; T10 -3.5,-2.5; T11 -2.5,-2.5; T12 -1.5,-2.5; T13 -0.5,-2.5; T14 0.5,-2.5; T15 1.5,-2.5; T16 2.5,-2.5; T17 3.5,-2.5; T18 4.5,-2.5; T19 5.5,-2.5; T20 6.5,-2.5; T21 7.5,-2.5; T22 8.5,-2.5; T23 9.5,-2.5; T24 10.5,-2.5; T25 11.5,-2.5; T26 12.5,-2.5; U1 -12.5,-3.5; U2 -11.5,-3.5; U3 -10.5,-3.5; U4 -9.5,-3.5; U5 -8.5,-3.5; U6 -7.5,-3.5; U7 -6.5,-3.5; U8 -5.5,-3.5; U9 -4.5,-3.5; U10 -3.5,-3.5; U11 -2.5,-3.5; U12 -1.5,-3.5; U13 -0.5,-3.5; U14 0.5,-3.5; U15 1.5,-3.5; U16 2.5,-3.5; U17 3.5,-3.5; U18 4.5,-3.5; U19 5.5,-3.5; U20 6.5,-3.5; U21 7.5,-3.5; U22 8.5,-3.5; U23 9.5,-3.5; U24 10.5,-3.5; U25 11.5,-3.5; U26 12.5,-3.5; V1 -12.5,-4.5; V2 -11.5,-4.5; V3 -10.5,-4.5; V4 -9.5,-4.5; V5 -8.5,-4.5; V6 -7.5,-4.5; V7 -6.5,-4.5; V8 -5.5,-4.5; V9 -4.5,-4.5; V10 -3.5,-4.5; V11 -2.5,-4.5; V12 -1.5,-4.5; V13 -0.5,-4.5; V14 0.5,-4.5; V15 1.5,-4.5; V16 2.5,-4.5; V17 3.5,-4.5; V18 4.5,-4.5; V19 5.5,-4.5; V20 6.5,-4.5; V21 7.5,-4.5; V22 8.5,-4.5; V23 9.5,-4.5; V24 10.5,-4.5; V25 11.5,-4.5; V26 12.5,-4.5; W1 -12.5,-5.5; W2 -11.5,-5.5; W3 -10.5,-5.5; W4 -9.5,-5.5; W5 -8.5,-5.5; W6 -7.5,-5.5; W7 -6.5,-5.5; W8 -5.5,-5.5; W9 -4.5,-5.5; W10 -3.5,-5.5; W11 -2.5,-5.5; W12 -1.5,-5.5; W13 -0.5,-5.5; W14 0.5,-5.5; W15 1.5,-5.5; W16 2.5,-5.5; W17 3.5,-5.5; W18 4.5,-5.5; W19 5.5,-5.5; W20 6.5,-5.5; W21 7.5,-5.5; W22 8.5,-5.5; W23 9.5,-5.5; W24 10.5,-5.5; W25 11.5,-5.5; W26 12.5,-5.5; Y1 -12.5,-6.5; Y2 -11.5,-6.5; Y3 -10.5,-6.5; Y4 -9.5,-6.5; Y5 -8.5,-6.5; Y6 -7.5,-6.5; Y7 -6.5,-6.5; Y8 -5.5,-6.5; Y9 -4.5,-6.5; Y10 -3.5,-6.5; Y11 -2.5,-6.5; Y12 -1.5,-6.5; Y13 -0.5,-6.5; Y14 0.5,-6.5; Y15 1.5,-6.5; Y16 2.5,-6.5; Y17 3.5,-6.5; Y18 4.5,-6.5; Y19 5.5,-6.5; Y20 6.5,-6.5; Y21 7.5,-6.5; Y22 8.5,-6.5; Y23 9.5,-6.5; Y24 10.5,-6.5; Y25 11.5,-6.5; Y26 12.5,-6.5